# Altium footprint library stcmcu_altium1819.PcbLib: 28 footprints (part 2 of 2)
Each footprint in its own frame and in the unit in brackets; x right, y up, seen from the top. Pads: shape width x height; smd on the part's side, far side on the other; paste and mask are expansions set on the pad; w line width, h text height; cw(c..) or ccw(c..) is an arc to the next point about the centre after c.
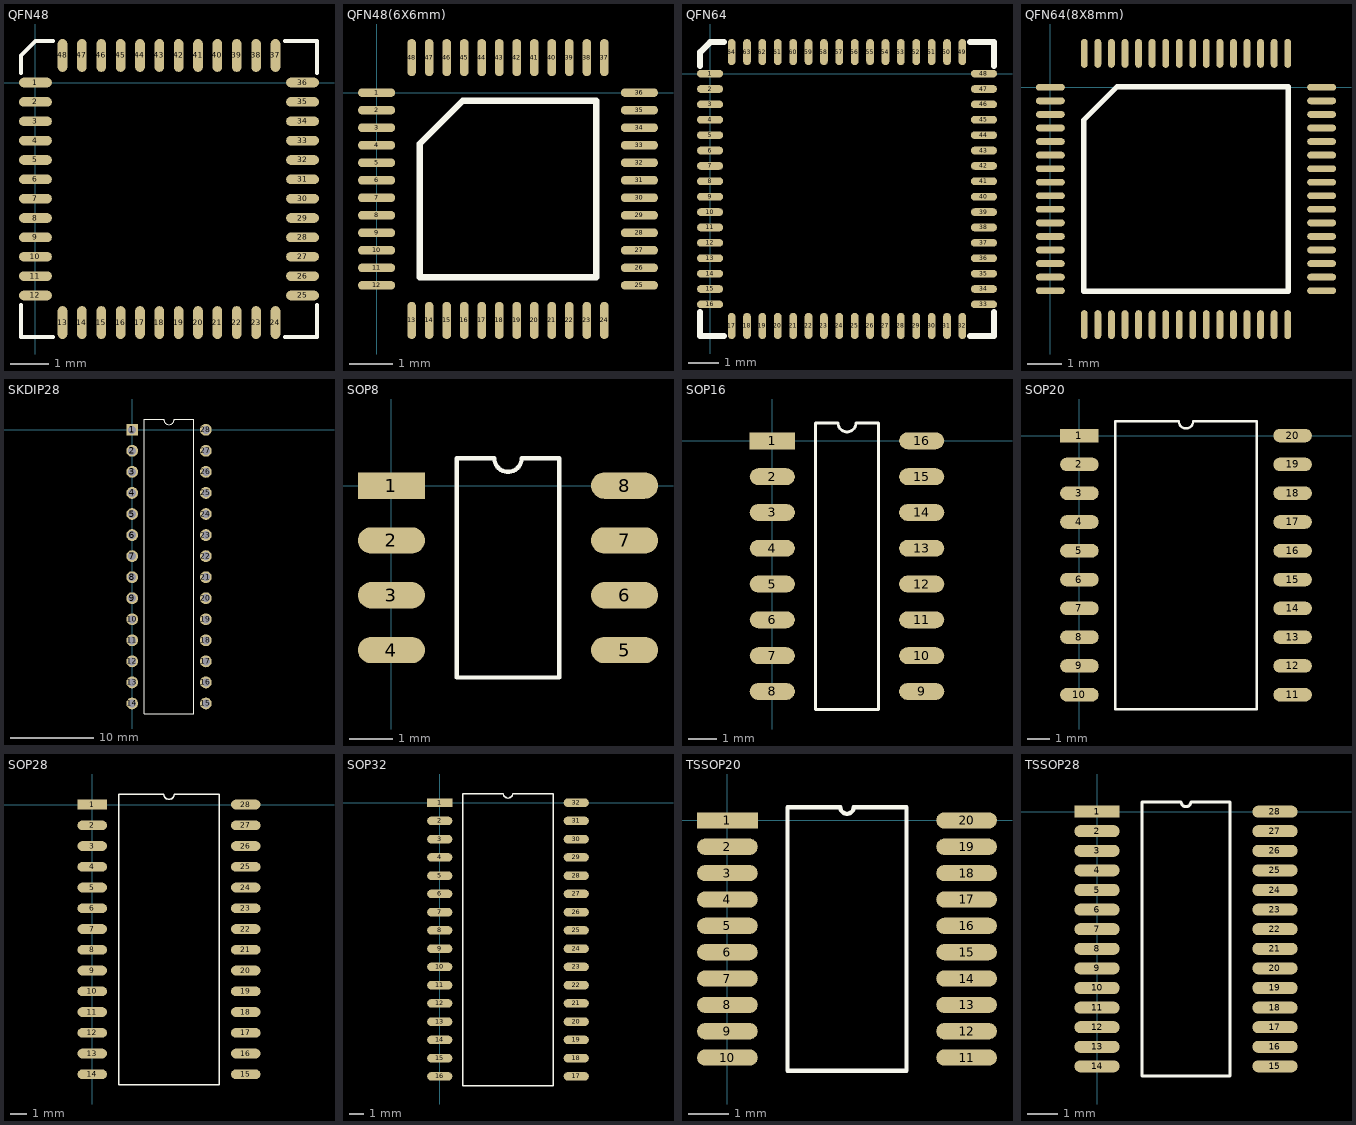
[diagram p1: the footprints below, top view; thin cyan lines are the x and y axes]

## QFN48 [mm]
pads (48):
  oval 0.85x0.25 smd: 1(0,0) 2(0,-0.5) 3(0,-1) 4(0,-1.5) 5(0,-2) 6(0,-2.5) 7(0,-3) 8(0,-3.5) 9(0,-4) 10(0,-4.5) 11(0,-5) 12(0,-5.5) 25(6.9,-5.5) 26(6.9,-5) 27(6.9,-4.5) 28(6.9,-4) 29(6.9,-3.5) 30(6.9,-3) 31(6.9,-2.5) 32(6.9,-2) 33(6.9,-1.5) 34(6.9,-1) 35(6.9,-0.5) 36(6.9,0)
  oval 0.25x0.85 smd: 13(0.7,-6.2) 14(1.2,-6.2) 15(1.7,-6.2) 16(2.2,-6.2) 17(2.7,-6.2) 18(3.2,-6.2) 19(3.7,-6.2) 20(4.2,-6.2) 21(4.7,-6.2) 22(5.2,-6.2) 23(5.7,-6.2) 24(6.2,-6.2) 37(6.2,0.7) 38(5.7,0.7) 39(5.2,0.7) 40(4.7,0.7) 41(4.2,0.7) 42(3.7,0.7) 43(3.2,0.7) 44(2.7,0.7) 45(2.2,0.7) 46(1.7,0.7) 47(1.2,0.7) 48(0.7,0.7)
Top Overlay:
  lines w0.1: -0.375,-5.75 -0.375,-6.575 0.45,-6.575 ; -0.375,0.25 -0.375,0.7 0,1.075 0.45,1.075 ; 6.45,-6.575 7.275,-6.575 7.275,-5.75 ; 6.45,1.075 7.275,1.075 7.275,0.25

## QFN48(6X6mm) [mm]
pads (48):
  oval 0.85x0.2 smd: 1(0,0) 2(0,-0.4) 3(0,-0.8) 4(0,-1.2) 5(0,-1.6) 6(0,-2) 7(0,-2.4) 8(0,-2.8) 9(0,-3.2) 10(0,-3.6) 11(0,-4) 12(0,-4.4) 25(6,-4.4) 26(6,-4) 27(6,-3.6) 28(6,-3.2) 29(6,-2.8) 30(6,-2.4) 31(6,-2) 32(6,-1.6) 33(6,-1.2) 34(6,-0.8) 35(6,-0.4) 36(6,0)
  oval 0.2x0.85 smd: 13(0.8,-5.2) 14(1.2,-5.2) 15(1.6,-5.2) 16(2,-5.2) 17(2.4,-5.2) 18(2.8,-5.2) 19(3.2,-5.2) 20(3.6,-5.2) 21(4,-5.2) 22(4.4,-5.2) 23(4.8,-5.2) 24(5.2,-5.2) 37(5.2,0.8) 38(4.8,0.8) 39(4.4,0.8) 40(4,0.8) 41(3.6,0.8) 42(3.2,0.8) 43(2.8,0.8) 44(2.4,0.8) 45(2,0.8) 46(1.6,0.8) 47(1.2,0.8) 48(0.8,0.8)
Top Overlay:
  lines w0.152: 0.984,-4.216 0.984,-1.168 1.968,-0.184 5.016,-0.184 5.016,-4.216 0.984,-4.216

## QFN64 [mm]
pads (64):
  oval 0.85x0.25 smd: 1(0,0) 2(0,-0.5) 3(0,-1) 4(0,-1.5) 5(0,-2) 6(0,-2.5) 7(0,-3) 8(0,-3.5) 9(0,-4) 10(0,-4.5) 11(0,-5) 12(0,-5.5) 13(0,-6) 14(0,-6.5) 15(0,-7) 16(0,-7.5) 33(8.9,-7.5) 34(8.9,-7) 35(8.9,-6.5) 36(8.9,-6) 37(8.9,-5.5) 38(8.9,-5) 39(8.9,-4.5) 40(8.9,-4) 41(8.9,-3.5) 42(8.9,-3) 43(8.9,-2.5) 44(8.9,-2) 45(8.9,-1.5) 46(8.9,-1) 47(8.9,-0.5) 48(8.9,0)
  oval 0.25x0.85 smd: 17(0.7,-8.2) 18(1.2,-8.2) 19(1.7,-8.2) 20(2.2,-8.2) 21(2.7,-8.2) 22(3.2,-8.2) 23(3.7,-8.2) 24(4.2,-8.2) 25(4.7,-8.2) 26(5.2,-8.2) 27(5.7,-8.2) 28(6.2,-8.2) 29(6.7,-8.2) 30(7.2,-8.2) 31(7.7,-8.2) 32(8.2,-8.2) 49(8.2,0.7) 50(7.7,0.7) 51(7.2,0.7) 52(6.7,0.7) 53(6.2,0.7) 54(5.7,0.7) 55(5.2,0.7) 56(4.7,0.7) 57(4.2,0.7) 58(3.7,0.7) 59(3.2,0.7) 60(2.7,0.7) 61(2.2,0.7) 62(1.7,0.7) 63(1.2,0.7) 64(0.7,0.7)
Top Overlay:
  lines w0.2: -0.325,-7.75 -0.325,-8.525 0.45,-8.525 ; -0.325,0.25 -0.325,0.7 0,1.025 0.45,1.025 ; 8.45,-8.525 9.225,-8.525 9.225,-7.75 ; 8.45,1.025 9.225,1.025 9.225,0.25

## QFN64(8X8mm) [mm]
pads (64):
  oval 0.85x0.2 smd: 1(0,0) 2(0,-0.4) 3(0,-0.8) 4(0,-1.2) 5(0,-1.6) 6(0,-2) 7(0,-2.4) 8(0,-2.8) 9(0,-3.2) 10(0,-3.6) 11(0,-4) 12(0,-4.4) 13(0,-4.8) 14(0,-5.2) 15(0,-5.6) 16(0,-6) 33(8,-6) 34(8,-5.6) 35(8,-5.2) 36(8,-4.8) 37(8,-4.4) 38(8,-4) 39(8,-3.6) 40(8,-3.2) 41(8,-2.8) 42(8,-2.4) 43(8,-2) 44(8,-1.6) 45(8,-1.2) 46(8,-0.8) 47(8,-0.4) 48(8,0)
  oval 0.2x0.85 smd: 17(1,-7) 18(1.4,-7) 19(1.8,-7) 20(2.2,-7) 21(2.6,-7) 22(3,-7) 23(3.4,-7) 24(3.8,-7) 25(4.2,-7) 26(4.6,-7) 27(5,-7) 28(5.4,-7) 29(5.8,-7) 30(6.2,-7) 31(6.6,-7) 32(7,-7) 49(7,1) 50(6.6,1) 51(6.2,1) 52(5.8,1) 53(5.4,1) 54(5,1) 55(4.6,1) 56(4.2,1) 57(3.8,1) 58(3.4,1) 59(3,1) 60(2.6,1) 61(2.2,1) 62(1.8,1) 63(1.4,1) 64(1,1)
Top Overlay:
  lines w0.152: 0.984,-6.016 7.016,-6.016 7.016,0.016 1.968,0.016 0.984,-0.968 0.984,-6.016

## SKDIP28 [mil]
pads (28):
  rect 56x56 hole 38: 1(0,0)
  round 56 hole 38: 2(0,-100) 3(0,-200) 4(0,-300) 5(0,-400) 6(0,-500) 7(0,-600) 8(0,-700) 9(0,-800) 10(0,-900) 11(0,-1000) 12(0,-1100) 13(0,-1200) 14(0,-1300) 15(350,-1300) 16(350,-1200) 17(350,-1100) 18(350,-1000) 19(350,-900) 20(350,-800) 21(350,-700) 22(350,-600) 23(350,-500) 24(350,-400) 25(350,-300) 26(350,-200) 27(350,-100) 28(350,0)
Top Overlay:
  lines w4: 57,-1350 293,-1350 293,50 200,50 cw(c175,50) 150,50 57,50 57,-1350

## SOP8 [mil]
pads (8):
  rect 61x24 smd: 1(0,0)
  oval 61x24 smd: 2(0,-50) 3(0,-100) 4(0,-150) 5(212.6,-150) 6(212.6,-100) 7(212.6,-50) 8(212.6,0)
Top Overlay:
  lines w4: 59.5,-175 153.1,-175 153.1,25 118.8,25 cw(c106.3,25) 93.8,25 59.5,25 59.5,-175

## SOP16 [mm]
pads (16):
  rect 1.6x0.6 smd: 1(0,0)
  oval 1.6x0.6 smd: 2(0,-1.27) 3(0,-2.54) 4(0,-3.81) 5(0,-5.08) 6(0,-6.35) 7(0,-7.62) 8(0,-8.89) 9(5.3,-8.89) 10(5.3,-7.62) 11(5.3,-6.35) 12(5.3,-5.08) 13(5.3,-3.81) 14(5.3,-2.54) 15(5.3,-1.27) 16(5.3,0)
Top Overlay:
  lines w0.1: 1.535,-9.525 1.535,0.635 2.332,0.635 ccw(c2.65,0.635) 2.967,0.635 3.765,0.635 3.765,-9.525 1.535,-9.525

## SOP20 [mm]
pads (20):
  rect 1.7x0.6 smd: 1(0,0)
  oval 1.7x0.6 smd: 2(0,-1.27) 3(0,-2.54) 4(0,-3.81) 5(0,-5.08) 6(0,-6.35) 7(0,-7.62) 8(0,-8.89) 9(0,-10.16) 10(0,-11.43) 11(9.4,-11.43) 12(9.4,-10.16) 13(9.4,-8.89) 14(9.4,-7.62) 15(9.4,-6.35) 16(9.4,-5.08) 17(9.4,-3.81) 18(9.4,-2.54) 19(9.4,-1.27) 20(9.4,0)
Top Overlay:
  lines w0.1: 1.585,-12.065 1.585,0.635 4.382,0.635 ccw(c4.7,0.635) 5.017,0.635 7.815,0.635 7.815,-12.065 1.585,-12.065

## SOP28 [mm]
pads (28):
  rect 1.8x0.6 smd: 1(0,0)
  oval 1.8x0.6 smd: 2(0,-1.27) 3(0,-2.54) 4(0,-3.81) 5(0,-5.08) 6(0,-6.35) 7(0,-7.62) 8(0,-8.89) 9(0,-10.16) 10(0,-11.43) 11(0,-12.7) 12(0,-13.97) 13(0,-15.24) 14(0,-16.51) 15(9.4,-16.51) 16(9.4,-15.24) 17(9.4,-13.97) 18(9.4,-12.7) 19(9.4,-11.43) 20(9.4,-10.16) 21(9.4,-8.89) 22(9.4,-7.62) 23(9.4,-6.35) 24(9.4,-5.08) 25(9.4,-3.81) 26(9.4,-2.54) 27(9.4,-1.27) 28(9.4,0)
Top Overlay:
  lines w0.1: 1.635,-17.145 7.765,-17.145 7.765,0.635 5.017,0.635 cw(c4.7,0.635) 4.382,0.635 1.635,0.635 1.635,-17.145

## SOP32 [mm]
pads (32):
  rect 1.75x0.6 smd: 1(0,0)
  oval 1.75x0.6 smd: 2(0,-1.27) 3(0,-2.54) 4(0,-3.81) 5(0,-5.08) 6(0,-6.35) 7(0,-7.62) 8(0,-8.89) 9(0,-10.16) 10(0,-11.43) 11(0,-12.7) 12(0,-13.97) 13(0,-15.24) 14(0,-16.51) 15(0,-17.78) 16(0,-19.05) 17(9.5,-19.05) 18(9.5,-17.78) 19(9.5,-16.51) 20(9.5,-15.24) 21(9.5,-13.97) 22(9.5,-12.7) 23(9.5,-11.43) 24(9.5,-10.16) 25(9.5,-8.89) 26(9.5,-7.62) 27(9.5,-6.35) 28(9.5,-5.08) 29(9.5,-3.81) 30(9.5,-2.54) 31(9.5,-1.27) 32(9.5,0)
Top Overlay:
  lines w0.1: 1.61,-19.685 7.89,-19.685 7.89,0.635 5.067,0.635 cw(c4.75,0.635) 4.432,0.635 1.61,0.635 1.61,-19.685

## TSSOP20 [mm]
pads (20):
  rect 1.5x0.4 smd: 1(0,0)
  oval 1.5x0.4 smd: 2(0,-0.65) 3(0,-1.3) 4(0,-1.95) 5(0,-2.6) 6(0,-3.25) 7(0,-3.9) 8(0,-4.55) 9(0,-5.2) 10(0,-5.85) 11(5.9,-5.85) 12(5.9,-5.2) 13(5.9,-4.55) 14(5.9,-3.9) 15(5.9,-3.25) 16(5.9,-2.6) 17(5.9,-1.95) 18(5.9,-1.3) 19(5.9,-0.65) 20(5.9,0)
Top Overlay:
  lines w0.1: 1.485,-6.175 4.415,-6.175 4.415,0.325 3.112,0.325 cw(c2.95,0.325) 2.788,0.325 1.485,0.325 1.485,-6.175

## TSSOP28 [mm]
pads (28):
  rect 1.5x0.4 smd: 1(0,0)
  oval 1.5x0.4 smd: 2(0,-0.65) 3(0,-1.3) 4(0,-1.95) 5(0,-2.6) 6(0,-3.25) 7(0,-3.9) 8(0,-4.55) 9(0,-5.2) 10(0,-5.85) 11(0,-6.5) 12(0,-7.15) 13(0,-7.8) 14(0,-8.45) 15(5.9,-8.45) 16(5.9,-7.8) 17(5.9,-7.15) 18(5.9,-6.5) 19(5.9,-5.85) 20(5.9,-5.2) 21(5.9,-4.55) 22(5.9,-3.9) 23(5.9,-3.25) 24(5.9,-2.6) 25(5.9,-1.95) 26(5.9,-1.3) 27(5.9,-0.65) 28(5.9,0)
Top Overlay:
  lines w0.1: 1.485,-8.775 4.415,-8.775 4.415,0.325 3.112,0.325 cw(c2.95,0.325) 2.788,0.325 1.485,0.325 1.485,-8.775